# Altium schematic symbol library 贴片电感.SchLib: 1 symbol
Pins are listed as number, name and electrical type; pins without a type are passive.

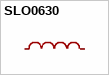
[diagram p0: symbol SLO0630]

## SLO0630
designator L?, comment 4.7uH  (value not drawn)
Manufacturer: Sunltech(韩国顺磁); Symbol: SLO0630H4R7MTT; Add into BOM: yes; Tolerance: ±20%; Rated Current: 5.5A; DC Resistance (DCR): 38mΩ; Device: SLO0630H4R7MTT; LCSC Part Name: 4.7uH ±20%; Supplier Part: C207840; Manufacturer Part: SLO0630H4R7MTT; Supplier Footprint: SMD,6.6x7.1mm; JLCPCB Part Class: Extended Part; Datasheet: https://atta.szlcsc.com/upload/public/pdf/source/20190925/C207844_D5F1113EB7E791F3C24FBC0C5D2BA774.pdf; Supplier: LCSC; Convert to PCB: yes; Value: 4.7uH
footprint SLO0630
pins: 1, 2